# Altium footprint library Package_SO.PcbLib: 393 footprints (part 9 of 25)
Each footprint in its own frame and in the unit in brackets; x right, y up, seen from the top. Pads: shape width x height; smd on the part's side, far side on the other; paste and mask are expansions set on the pad; w line width, h text height; cw(c..) or ccw(c..) is an arc to the next point about the centre after c.
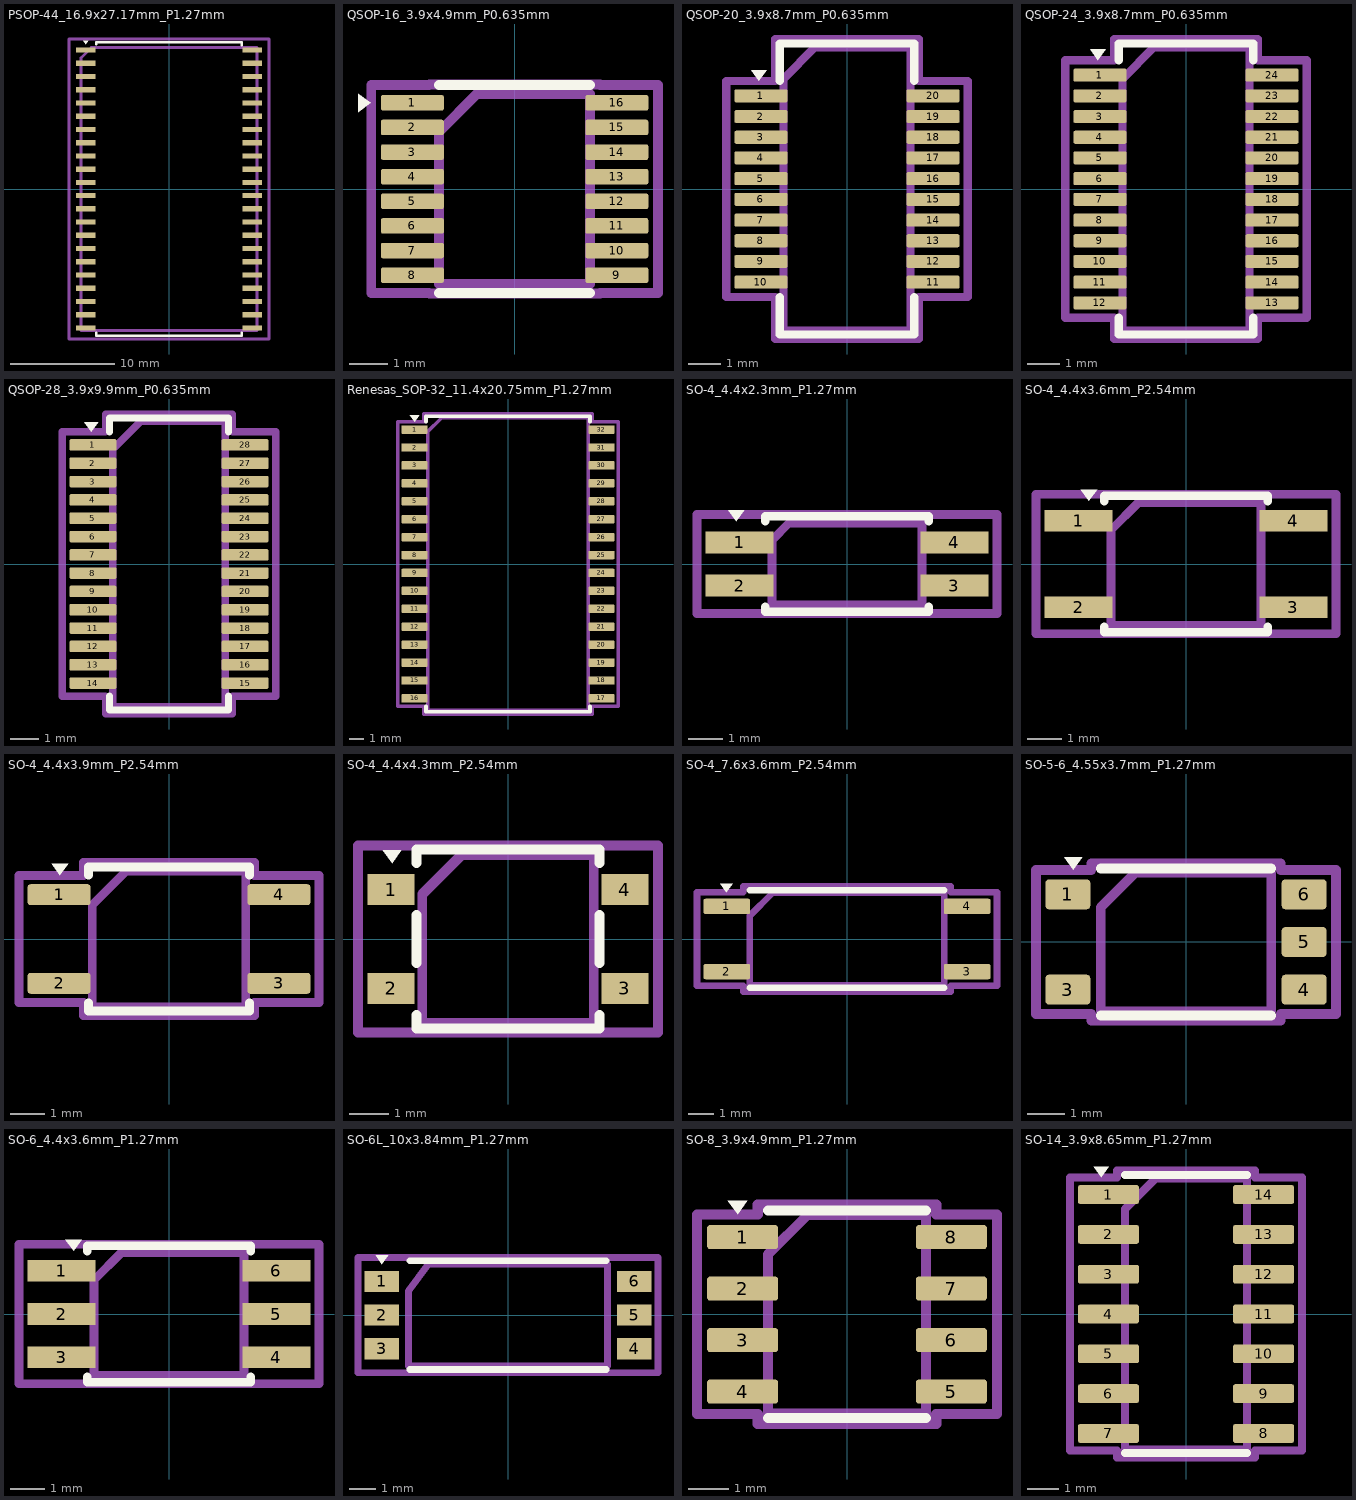
[diagram p8: the footprints below, top view; thin cyan lines are the x and y axes]

## PSOP-44_16.9x27.17mm_P1.27mm [mm]
pads (44):
  rect 1.9x0.5 smd: 1(-8,13.335) 2(-8,12.065) 3(-8,10.795) 4(-8,9.525) 5(-8,8.255) 6(-8,6.985) 7(-8,5.715) 8(-8,4.445) 9(-8,3.175) 10(-8,1.905) 11(-8,0.635) 12(-8,-0.635) 13(-8,-1.905) 14(-8,-3.175) 15(-8,-4.445) 16(-8,-5.715) 17(-8,-6.985) 18(-8,-8.255) 19(-8,-9.525) 20(-8,-10.795) 21(-8,-12.065) 22(-8,-13.335) 23(8,-13.335) 24(8,-12.065) 25(8,-10.795) 26(8,-9.525) 27(8,-8.255) 28(8,-6.985) 29(8,-5.715) 30(8,-4.445) 31(8,-3.175) 32(8,-1.905) 33(8,-0.635) 34(8,0.635) 35(8,1.905) 36(8,3.175) 37(8,4.445) 38(8,5.715) 39(8,6.985) 40(8,8.255) 41(8,9.525) 42(8,10.795) 43(8,12.065) 44(8,13.335)
F.SilkS:
  region: -8,13.9 -8.24,14.23 -7.76,14.23
  lines w0.254: -7,-13.8 -7,-14.1 7,-14.1 7,-13.8 ; -7,13.9 -7,14.1 7,14.1 7,13.8
Top Assembly:
  lines w0.254: -8.45,-13.585 8.45,-13.585 8.45,13.585 -7.45,13.585 -8.45,12.585 -8.45,-13.585
  text "'.Designator'" at -3.267,-0.702 h0.8
Top Courtyard:
  lines w0.254: -9.6,-14.4 9.6,-14.4 9.6,14.4 -9.6,14.4 -9.6,-14.4
Top Designator:
  text ".Designator" at -7.618,-0.508 h1.52

## QSOP-16_3.9x4.9mm_P0.635mm [mm]
pads (16):
  rrect25% 1.625x0.4 smd: 1(-2.638,2.222) 2(-2.638,1.587) 3(-2.638,0.953) 4(-2.638,0.318) 5(-2.638,-0.318) 6(-2.638,-0.953) 7(-2.638,-1.587) 8(-2.638,-2.222) 9(2.638,-2.222) 10(2.638,-1.587) 11(2.638,-0.953) 12(2.638,-0.318) 13(2.638,0.318) 14(2.638,0.953) 15(2.638,1.587) 16(2.638,2.222)
F.SilkS:
  region: -3.71,2.222 -4.04,1.983 -4.04,2.462
  lines w0.254: -1.95,-2.682 0,-2.682 1.95,-2.682 ; -1.95,2.682 0,2.682 1.95,2.682
Top Assembly:
  lines w0.254: -1.95,-2.45 1.95,-2.45 1.95,2.45 -0.975,2.45 -1.95,1.475 -1.95,-2.45
  text "'.Designator'" at -3.969,-0.827 h0.98
Top Courtyard:
  lines w0.254: -3.7,-2.68 -2.2,-2.68 -2.2,-2.7 2.2,-2.7 2.2,-2.68 3.7,-2.68 3.7,2.68 2.2,2.68 2.2,2.7 -2.2,2.7 -2.2,2.68 -3.7,2.68 -3.7,-2.68
Top Designator:
  text ".Designator" at -7.763,-0.508 h1.52

## QSOP-20_3.9x8.7mm_P0.635mm [mm]
pads (20):
  rrect25% 1.625x0.4 smd: 1(-2.638,2.857) 2(-2.638,2.222) 3(-2.638,1.587) 4(-2.638,0.953) 5(-2.638,0.318) 6(-2.638,-0.318) 7(-2.638,-0.953) 8(-2.638,-1.587) 9(-2.638,-2.222) 10(-2.638,-2.857) 11(2.638,-2.857) 12(2.638,-2.222) 13(2.638,-1.587) 14(2.638,-0.953) 15(2.638,-0.318) 16(2.638,0.318) 17(2.638,0.953) 18(2.638,1.587) 19(2.638,2.222) 20(2.638,2.857)
F.SilkS:
  region: -2.7,3.317 -2.94,3.648 -2.46,3.648
  lines w0.254: -2.06,-3.317 -2.06,-4.46 0,-4.46 2.06,-4.46 2.06,-3.317 ; -2.06,3.317 -2.06,4.46 0,4.46 2.06,4.46 2.06,3.317
Top Assembly:
  lines w0.254: -1.95,-4.35 1.95,-4.35 1.95,4.35 -0.975,4.35 -1.95,3.375 -1.95,-4.35
  text "'.Designator'" at -3.969,-0.827 h0.98
Top Courtyard:
  lines w0.254: -3.7,-3.31 -2.2,-3.31 -2.2,-4.6 2.2,-4.6 2.2,-3.31 3.7,-3.31 3.7,3.31 2.2,3.31 2.2,4.6 -2.2,4.6 -2.2,3.31 -3.7,3.31 -3.7,-3.31
Top Designator:
  text ".Designator" at -7.763,-0.508 h1.52

## QSOP-24_3.9x8.7mm_P0.635mm [mm]
pads (24):
  rrect25% 1.625x0.4 smd: 1(-2.638,3.492) 2(-2.638,2.857) 3(-2.638,2.222) 4(-2.638,1.587) 5(-2.638,0.953) 6(-2.638,0.318) 7(-2.638,-0.318) 8(-2.638,-0.953) 9(-2.638,-1.587) 10(-2.638,-2.222) 11(-2.638,-2.857) 12(-2.638,-3.492) 13(2.638,-3.492) 14(2.638,-2.857) 15(2.638,-2.222) 16(2.638,-1.587) 17(2.638,-0.953) 18(2.638,-0.318) 19(2.638,0.318) 20(2.638,0.953) 21(2.638,1.587) 22(2.638,2.222) 23(2.638,2.857) 24(2.638,3.492)
F.SilkS:
  region: -2.7,3.952 -2.94,4.283 -2.46,4.283
  lines w0.254: -2.06,-3.952 -2.06,-4.46 0,-4.46 2.06,-4.46 2.06,-3.952 ; -2.06,3.952 -2.06,4.46 0,4.46 2.06,4.46 2.06,3.952
Top Assembly:
  lines w0.254: -1.95,-4.35 1.95,-4.35 1.95,4.35 -0.975,4.35 -1.95,3.375 -1.95,-4.35
  text "'.Designator'" at -3.969,-0.827 h0.98
Top Courtyard:
  lines w0.254: -3.7,-3.95 -2.2,-3.95 -2.2,-4.6 2.2,-4.6 2.2,-3.95 3.7,-3.95 3.7,3.95 2.2,3.95 2.2,4.6 -2.2,4.6 -2.2,3.95 -3.7,3.95 -3.7,-3.95
Top Designator:
  text ".Designator" at -7.763,-0.508 h1.52

## QSOP-28_3.9x9.9mm_P0.635mm [mm]
pads (28):
  rrect25% 1.625x0.4 smd: 1(-2.638,4.127) 2(-2.638,3.492) 3(-2.638,2.857) 4(-2.638,2.222) 5(-2.638,1.587) 6(-2.638,0.953) 7(-2.638,0.318) 8(-2.638,-0.318) 9(-2.638,-0.953) 10(-2.638,-1.587) 11(-2.638,-2.222) 12(-2.638,-2.857) 13(-2.638,-3.492) 14(-2.638,-4.127) 15(2.638,-4.127) 16(2.638,-3.492) 17(2.638,-2.857) 18(2.638,-2.222) 19(2.638,-1.587) 20(2.638,-0.953) 21(2.638,-0.318) 22(2.638,0.318) 23(2.638,0.953) 24(2.638,1.587) 25(2.638,2.222) 26(2.638,2.857) 27(2.638,3.492) 28(2.638,4.127)
F.SilkS:
  region: -2.7,4.587 -2.94,4.918 -2.46,4.918
  lines w0.254: -2.06,-4.587 -2.06,-5.06 0,-5.06 2.06,-5.06 2.06,-4.587 ; -2.06,4.587 -2.06,5.06 0,5.06 2.06,5.06 2.06,4.587
Top Assembly:
  lines w0.254: -1.95,-4.95 1.95,-4.95 1.95,4.95 -0.975,4.95 -1.95,3.975 -1.95,-4.95
  text "'.Designator'" at -3.969,-0.827 h0.98
Top Courtyard:
  lines w0.254: -3.7,-4.58 -2.2,-4.58 -2.2,-5.2 2.2,-5.2 2.2,-4.58 3.7,-4.58 3.7,4.58 2.2,4.58 2.2,5.2 -2.2,5.2 -2.2,4.58 -3.7,4.58 -3.7,-4.58
Top Designator:
  text ".Designator" at -7.763,-0.508 h1.52

## Renesas_SOP-32_11.4x20.75mm_P1.27mm [mm]
pads (32):
  rrect25% 1.85x0.6 smd: 1(-6.625,9.525) 2(-6.625,8.255) 3(-6.625,6.985) 4(-6.625,5.715) 5(-6.625,4.445) 6(-6.625,3.175) 7(-6.625,1.905) 8(-6.625,0.635) 9(-6.625,-0.635) 10(-6.625,-1.905) 11(-6.625,-3.175) 12(-6.625,-4.445) 13(-6.625,-5.715) 14(-6.625,-6.985) 15(-6.625,-8.255) 16(-6.625,-9.525) 17(6.625,-9.525) 18(6.625,-8.255) 19(6.625,-6.985) 20(6.625,-5.715) 21(6.625,-4.445) 22(6.625,-3.175) 23(6.625,-1.905) 24(6.625,-0.635) 25(6.625,0.635) 26(6.625,1.905) 27(6.625,3.175) 28(6.625,4.445) 29(6.625,5.715) 30(6.625,6.985) 31(6.625,8.255) 32(6.625,9.525)
F.SilkS:
  region: -6.625,10.085 -6.965,10.555 -6.285,10.555
  lines w0.254: -5.81,-10.085 -5.81,-10.485 0,-10.485 5.81,-10.485 5.81,-10.085 ; -5.81,10.085 -5.81,10.485 0,10.485 5.81,10.485 5.81,10.085
Top Assembly:
  lines w0.254: -5.7,-10.375 5.7,-10.375 5.7,10.375 -4.7,10.375 -5.7,9.375 -5.7,-10.375
  text "'.Designator'" at -4.047,-0.84 h1
Top Courtyard:
  lines w0.254: -7.8,-10.08 -5.95,-10.08 -5.95,-10.63 5.95,-10.63 5.95,-10.08 7.8,-10.08 7.8,10.08 5.95,10.08 5.95,10.63 -5.95,10.63 -5.95,10.08 -7.8,10.08 -7.8,-10.08
Top Designator:
  text ".Designator" at -7.618,-0.508 h1.52

## SO-4_4.4x2.3mm_P1.27mm [mm]
pads (4):
  rect 2x0.64 smd: 1(-3.15,0.635) 2(-3.15,-0.635) 3(3.15,-0.635) 4(3.15,0.635)
F.SilkS:
  region: -3.25,1.25 -3.49,1.58 -3.01,1.58
  lines w0.254: -2.4,-1.25 -2.4,-1.4 2.4,-1.4 2.4,-1.25 ; -2.4,1.25 -2.4,1.4 2.4,1.4 2.4,1.25
Top Assembly:
  lines w0.254: -2.2,-1.2 2.2,-1.2 2.2,1.2 -1.7,1.2 -2.2,0.7 -2.2,-1.2
  text "'.Designator'" at -4.047,-0.775 h1
Top Courtyard:
  lines w0.254: -4.4,-1.45 4.4,-1.45 4.4,1.45 -4.4,1.45 -4.4,-1.45
Top Designator:
  text ".Designator" at -7.618,-0.506 h1.52

## SO-4_4.4x3.6mm_P2.54mm [mm]
pads (4):
  rect 2x0.64 smd: 1(-3.15,1.27) 2(-3.15,-1.27) 3(3.15,-1.27) 4(3.15,1.27)
F.SilkS:
  region: -2.85,1.85 -3.09,2.18 -2.61,2.18
  lines w0.254: -2.4,-1.85 -2.4,-2 2.4,-2 2.4,-1.85 ; -2.4,1.85 -2.4,2 2.4,2 2.4,1.85
Top Assembly:
  lines w0.254: -2.2,-1.8 2.2,-1.8 2.2,1.8 -1.4,1.8 -2.2,1 -2.2,-1.8
  text "'.Designator'" at -4.047,-0.775 h1
Top Courtyard:
  lines w0.254: -4.4,-2.05 4.4,-2.05 4.4,2.05 -4.4,2.05 -4.4,-2.05
Top Designator:
  text ".Designator" at -7.618,-0.506 h1.52

## SO-4_4.4x3.9mm_P2.54mm [mm]
pads (4):
  rrect25% 1.8x0.6 smd: 1(-3.15,1.27) 2(-3.15,-1.27) 3(3.15,-1.27) 4(3.15,1.27)
F.SilkS:
  region: -3.125,1.83 -3.365,2.16 -2.885,2.16
  lines w0.254: -2.31,-1.83 -2.31,-2.06 0,-2.06 2.31,-2.06 2.31,-1.83 ; -2.31,1.83 -2.31,2.06 0,2.06 2.31,2.06 2.31,1.83
Top Assembly:
  lines w0.254: -2.2,-1.95 2.2,-1.95 2.2,1.95 -1.225,1.95 -2.2,0.975 -2.2,-1.95
  text "'.Designator'" at -4.047,-0.84 h1
Top Courtyard:
  lines w0.254: -4.3,-1.82 -2.45,-1.82 -2.45,-2.2 2.45,-2.2 2.45,-1.82 4.3,-1.82 4.3,1.82 2.45,1.82 2.45,2.2 -2.45,2.2 -2.45,1.82 -4.3,1.82 -4.3,-1.82
Top Designator:
  text ".Designator" at -7.618,-0.508 h1.52

## SO-4_4.4x4.3mm_P2.54mm [mm]
pads (4):
  rect 1.2x0.8 smd: 1(-3,1.27) 2(-3,-1.27) 3(3,-1.27) 4(3,1.27)
F.SilkS:
  region: -2.975,1.95 -3.215,2.28 -2.735,2.28
  lines w0.254: -2.35,-1.95 -2.35,-2.3 2.35,-2.3 2.35,-1.95 ; -2.35,-0.62 -2.35,0.62 ; -2.35,1.95 -2.35,2.3 2.35,2.3 2.35,1.95 ; 2.35,-0.62 2.35,0.62
Top Assembly:
  lines w0.254: -2.2,-2.15 2.2,-2.15 2.2,2.15 -1.2,2.15 -2.2,1.15 -2.2,-2.15
  text "'.Designator'" at -4.047,-0.84 h1
Top Courtyard:
  lines w0.254: -3.85,-2.4 3.85,-2.4 3.85,2.4 -3.85,2.4 -3.85,-2.4
Top Designator:
  text ".Designator" at -7.727,-0.508 h1.52

## SO-4_7.6x3.6mm_P2.54mm [mm]
pads (4):
  rrect25% 1.825x0.6 smd: 1(-4.687,1.27) 2(-4.687,-1.27) 3(4.687,-1.27) 4(4.687,1.27)
F.SilkS:
  region: -4.7,1.83 -4.94,2.16 -4.46,2.16
  lines w0.254: -3.8,-1.91 0,-1.91 3.8,-1.91 ; -3.8,1.91 0,1.91 3.8,1.91
Top Assembly:
  lines w0.254: -3.8,-1.8 3.8,-1.8 3.8,1.8 -2.9,1.8 -3.8,0.9 -3.8,-1.8
  text "'.Designator'" at -4.047,-0.84 h1
Top Courtyard:
  lines w0.254: -5.85,-1.82 -4.05,-1.82 -4.05,-2.05 4.05,-2.05 4.05,-1.82 5.85,-1.82 5.85,1.82 4.05,1.82 4.05,2.05 -4.05,2.05 -4.05,1.82 -5.85,1.82 -5.85,-1.82
Top Designator:
  text ".Designator" at -7.618,-0.508 h1.52

## SO-5-6_4.55x3.7mm_P1.27mm [mm]
pads (5):
  rrect25% 1.2x0.8 smd: 1(-3.15,1.27) 3(-3.15,-1.27) 4(3.15,-1.27) 5(3.15,0) 6(3.15,1.27)
F.SilkS:
  region: -3.013,1.93 -3.253,2.26 -2.772,2.26
  lines w0.254: -2.275,-1.96 0,-1.96 2.275,-1.96 ; -2.275,1.96 0,1.96 2.275,1.96
Top Assembly:
  lines w0.254: -2.275,-1.85 2.275,-1.85 2.275,1.85 -1.35,1.85 -2.275,0.925 -2.275,-1.85
  text "'.Designator'" at -4.047,-0.84 h1
Top Courtyard:
  lines w0.254: -4,-1.92 -2.53,-1.92 -2.53,-2.1 2.53,-2.1 2.53,-1.92 4,-1.92 4,1.92 2.53,1.92 2.53,2.1 -2.53,2.1 -2.53,1.92 -4,1.92 -4,-1.92
Top Designator:
  text ".Designator" at -7.652,-0.491 h1.52

## SO-6_4.4x3.6mm_P1.27mm [mm]
pads (6):
  rect 2x0.64 smd: 1(-3.15,1.27) 2(-3.15,0) 3(-3.15,-1.27) 4(3.15,-1.27) 5(3.15,0) 6(3.15,1.27)
F.SilkS:
  region: -2.8,1.85 -3.04,2.18 -2.56,2.18
  lines w0.254: -2.4,-1.85 -2.4,-2 2.4,-2 2.4,-1.85 ; -2.4,1.85 -2.4,2 2.4,2 2.4,1.85
Top Assembly:
  lines w0.254: -2.2,-1.8 2.2,-1.8 2.2,1.8 -1.4,1.8 -2.2,1 -2.2,-1.8
  text "'.Designator'" at -4.047,-0.775 h1
Top Courtyard:
  lines w0.254: -4.4,-2.05 4.4,-2.05 4.4,2.05 -4.4,2.05 -4.4,-2.05
Top Designator:
  text ".Designator" at -7.618,-0.506 h1.52

## SO-6L_10x3.84mm_P1.27mm [mm]
pads (6):
  rect 1.3x0.8 smd: 1(-4.75,1.27) 2(-4.75,0) 3(-4.75,-1.27) 4(4.75,-1.27) 5(4.75,0) 6(4.75,1.27)
F.SilkS:
  region: -4.75,1.925 -4.99,2.255 -4.51,2.255
  lines w0.254: -3.7,-2.05 3.7,-2.05 ; -3.7,2.05 3.7,2.05
Top Assembly:
  lines w0.254: -3.75,-1.92 3.75,-1.92 3.75,1.92 -3,1.92 -3.75,0.9 -3.75,-1.92
  text "'.Designator'" at -1.698,-0.395 h0.5
Top Courtyard:
  lines w0.254: -5.65,-2.17 5.65,-2.17 5.65,2.17 -5.65,2.17 -5.65,-2.17
Top Designator:
  text ".Designator" at -7.618,-0.508 h1.52

## SO-8_3.9x4.9mm_P1.27mm [mm]
pads (8):
  rrect25% 1.75x0.6 smd: 1(-2.575,1.905) 2(-2.575,0.635) 3(-2.575,-0.635) 4(-2.575,-1.905) 5(2.575,-1.905) 6(2.575,-0.635) 7(2.575,0.635) 8(2.575,1.905)
F.SilkS:
  region: -2.7,2.465 -2.94,2.795 -2.46,2.795
  lines w0.254: -1.95,-2.56 0,-2.56 1.95,-2.56 ; -1.95,2.56 0,2.56 1.95,2.56
Top Assembly:
  lines w0.254: -1.95,-2.45 1.95,-2.45 1.95,2.45 -0.975,2.45 -1.95,1.475 -1.95,-2.45
  text "'.Designator'" at -3.969,-0.827 h0.98
Top Courtyard:
  lines w0.254: -3.7,-2.46 -2.2,-2.46 -2.2,-2.7 2.2,-2.7 2.2,-2.46 3.7,-2.46 3.7,2.46 2.2,2.46 2.2,2.7 -2.2,2.7 -2.2,2.46 -3.7,2.46 -3.7,-2.46
Top Designator:
  text ".Designator" at -7.763,-0.508 h1.52

## SO-14_3.9x8.65mm_P1.27mm [mm]
pads (14):
  rrect25% 1.95x0.6 smd: 1(-2.475,3.81) 2(-2.475,2.54) 3(-2.475,1.27) 4(-2.475,0) 5(-2.475,-1.27) 6(-2.475,-2.54) 7(-2.475,-3.81) 8(2.475,-3.81) 9(2.475,-2.54) 10(2.475,-1.27) 11(2.475,0) 12(2.475,1.27) 13(2.475,2.54) 14(2.475,3.81)
F.SilkS:
  region: -2.7,4.37 -2.94,4.7 -2.46,4.7
  lines w0.254: -1.95,-4.435 0,-4.435 1.95,-4.435 ; -1.95,4.435 0,4.435 1.95,4.435
Top Assembly:
  lines w0.254: -1.95,-4.325 1.95,-4.325 1.95,4.325 -0.975,4.325 -1.95,3.35 -1.95,-4.325
  text "'.Designator'" at -3.969,-0.827 h0.98
Top Courtyard:
  lines w0.254: -3.7,-4.36 -2.2,-4.36 -2.2,-4.58 2.2,-4.58 2.2,-4.36 3.7,-4.36 3.7,4.36 2.2,4.36 2.2,4.58 -2.2,4.58 -2.2,4.36 -3.7,4.36 -3.7,-4.36
Top Designator:
  text ".Designator" at -7.763,-0.508 h1.52